# Altium schematic symbol library BSS84W.Schlib: 1 symbol
Pins are listed as number, name and electrical type; pins without a type are passive.

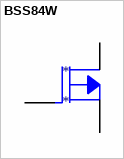
[diagram p0: symbol BSS84W]

## BSS84W
designator *
FET SM PCH 50V 130mA SOT323
pins: 1, 2, 3